# EAGLE library part CPSS_IC_TPS62130_RGT_16 (library xbee2)
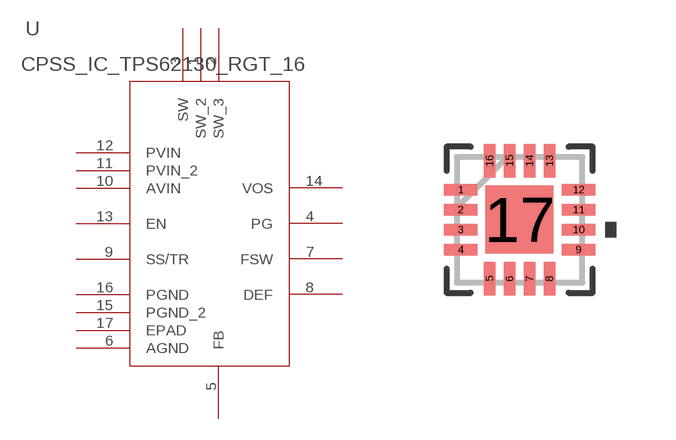
[diagram p2: symbol with the pads of CPSS_IC_RGT16_1P7X1P7; footprint CPSS_IC_RGT16_1P7X1P7]

Designator prefix U

## CPSS_IC_TPS62130_RGT_16 (DATASHEETURL: httpwww.ti.comlitgpnTPS62130; FAMILY_NAME: STEPDOWN REGULATOR; GENERIC_PART_NUMBER: TPS62130; INDUSTRY_STD_PKG_TYPE: QFN; MANUFACTURER: Texas Instruments; MANUFACTURER_PART_NUMBER: tps62130_rgt_16; PACKAGE_DESIGNATOR: RGT; PIN_COUNT: 16; VENDOR: Texas Instruments)  [CPSS_IC_RGT16_1P7X1P7]
1  SW_2  out
2  SW_3  out
3  SW  out
4  PG  out
5  FB  in
6  AGND  pwr
7  FSW  in
8  DEF  in
9  SS/TR  in
10  AVIN  in
11  PVIN_2  in
12  PVIN  in
13  EN  in
14  VOS  in
15  PGND_2  pwr
16  PGND  pwr
17  EPAD  pas

## Footprint CPSS_IC_RGT16_1P7X1P7 (pad centres in mm)
smd 0.85 x 0.28: 1 -1.475,0.75; 2 -1.475,0.25; 3 -1.475,-0.25; 4 -1.475,-0.75; 9 1.475,-0.75; 10 1.475,-0.25; 11 1.475,0.25; 12 1.475,0.75
smd 0.28 x 0.85: 5 -0.75,-1.475; 6 -0.25,-1.475; 7 0.25,-1.475; 8 0.75,-1.475; 13 0.75,1.475; 14 0.25,1.475; 15 -0.25,1.475; 16 -0.75,1.475
smd 1.7 x 1.7: 17 0,0